# EAGLE library part SMD-16 (library boogie)
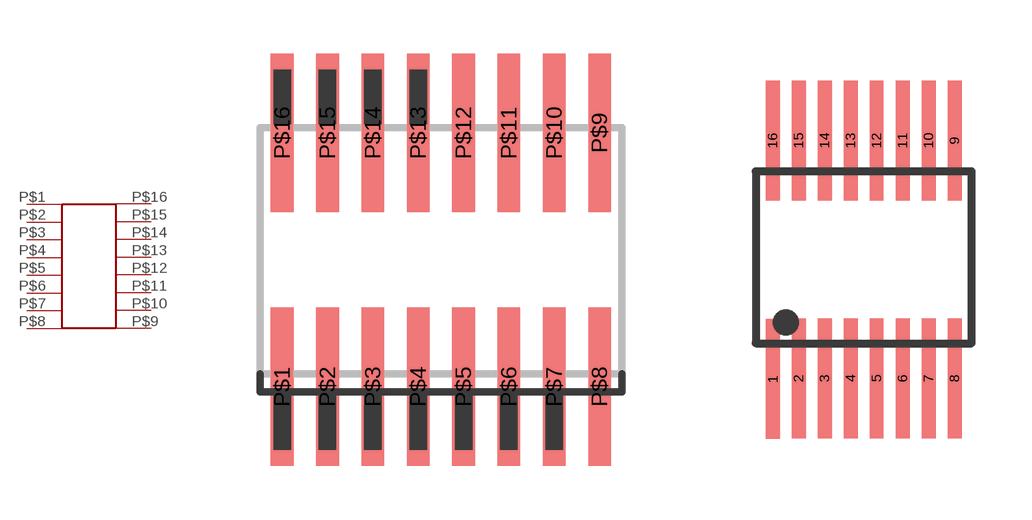
[diagram p3: symbol with the pads of SO-16NMW; footprints SO-16NMW, TSSOP-16NM]

Designator prefix -

## SMD-16SOIC  [SO-16NMW]
P$1  P$1
P$2  P$2
P$3  P$3
P$4  P$4
P$5  P$5
P$6  P$6
P$7  P$7
P$8  P$8
P$9  P$9
P$10  P$10
P$11  P$11
P$12  P$12
P$13  P$13
P$14  P$14
P$15  P$15
P$16  P$16

## SMD-16TSSOP  [TSSOP-16NM]
1  P$1
2  P$2
3  P$3
4  P$4
5  P$5
6  P$6
7  P$7
8  P$8
9  P$9
10  P$10
11  P$11
12  P$12
13  P$13
14  P$14
15  P$15
16  P$16

## Footprint SO-16NMW (pad centres in mm)
smd 0.635 x 4.445: P$1 -3.048,-3.683; P$2 -1.778,-3.683; P$3 -0.508,-3.683; P$4 0.762,-3.683; P$5 2.032,-3.683; P$6 3.302,-3.683; P$7 4.572,-3.683; P$8 5.842,-3.683; P$9 5.842,3.429; P$10 4.572,3.429; P$11 3.302,3.429; P$12 2.032,3.429; P$13 0.762,3.429; P$14 -0.508,3.429; P$15 -1.778,3.429; P$16 -3.048,3.429

## Footprint TSSOP-16NM (pad centres in mm)
smd 0.35 x 3: 1 0.205,-4.493; 2 0.845,-4.469; 3 1.495,-4.469; 4 2.145,-4.469; 5 2.795,-4.469; 6 3.445,-4.469; 7 4.095,-4.469; 8 4.745,-4.469; 9 4.745,1.481; 10 4.095,1.481; 11 3.445,1.481; 12 2.795,1.481; 13 2.145,1.481; 14 1.495,1.481; 15 0.845,1.481; 16 0.195,1.481